# Altium footprint library Drosel.PcbLib: 92 footprints (part 3 of 6)
Each footprint in its own frame and in the unit in brackets; x right, y up, seen from the top. Pads: shape width x height; smd on the part's side, far side on the other; paste and mask are expansions set on the pad; w line width, h text height; cw(c..) or ccw(c..) is an arc to the next point about the centre after c.
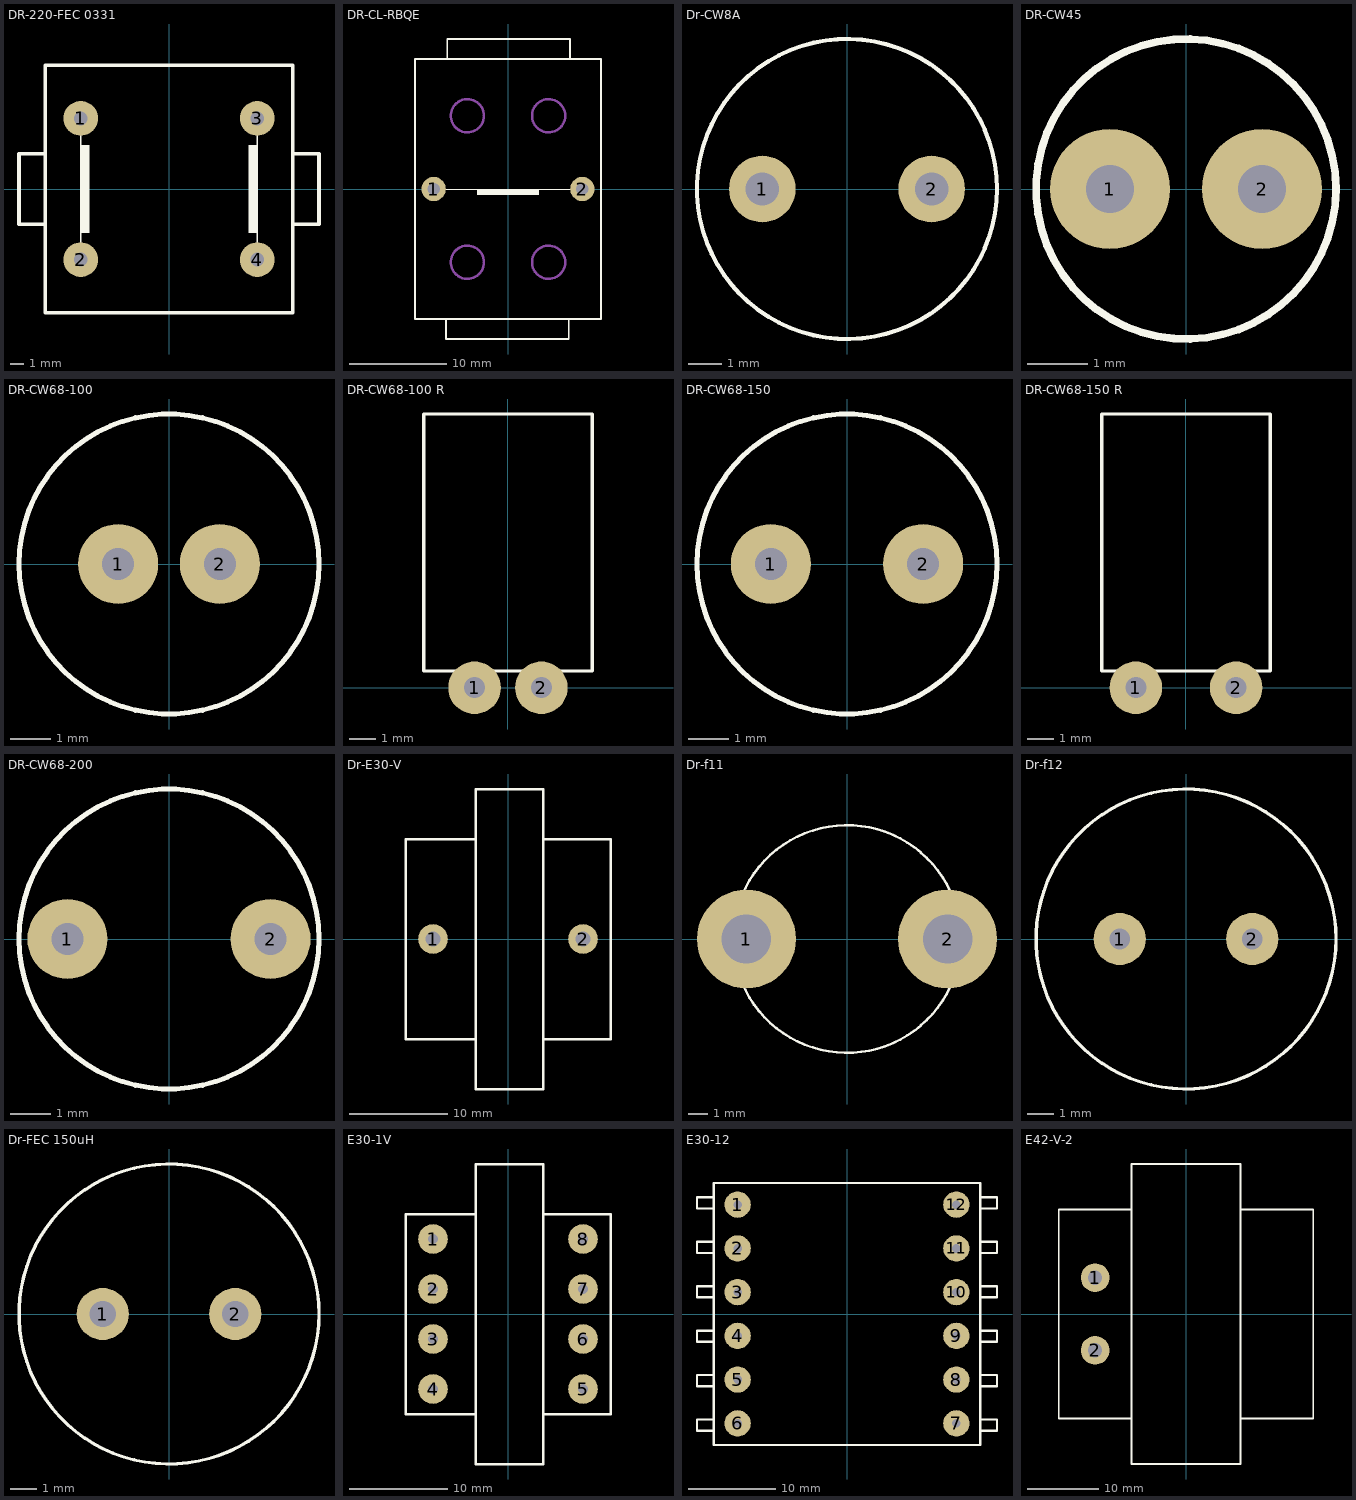
[diagram p2: the footprints below, top view; thin cyan lines are the x and y axes]

## DR-220-FEC 0331 [mm]
pads (4):
  round 2.5 hole 1: 1(-6.35,5.08) 2(-6.35,-5.08) 3(6.35,5.08) 4(6.35,-5.08)
Top Overlay:
  region: -5.715,-3.175 -5.715,3.175 -6.35,3.175 -6.35,-3.175
  region: 5.715,3.175 5.715,-3.175 6.35,-3.175 6.35,3.175
  lines w0.127: -6.35,-5.08 -6.35,5.08 ; 6.35,-5.08 6.35,5.08
  lines w0.254: -8.89,-2.54 -10.795,-2.54 -10.795,2.54 ; -8.89,2.54 -9.525,2.54 -10.795,2.54 ; 8.89,-2.54 10.795,-2.54 10.795,2.54 8.89,2.54 ; -10.795,2.54 -10.16,2.54 -10.795,2.54 ; -8.89,-8.89 8.89,-8.89 8.89,8.89 -8.89,8.89 -8.89,-8.89

## DR-CL-RBQE [mm]
pads (2):
  round 2.5 hole 1.27: 1(-7.62,0) 2(7.62,0)
Top Overlay:
  rectangle: -3.175,-0.635 3.175,0
  lines w0.127: -7.62,0 7.62,0
  lines w0.2: -6.35,-13.335 -6.35,-15.367 6.223,-15.367 6.223,-13.335 ; -6.223,13.335 -6.223,15.367 6.35,15.367 6.35,13.335 ; -9.525,-13.335 -9.525,13.335 9.525,13.335 9.525,-13.335 -9.525,-13.335
Mechanical 2:
  circle w0.254: c-4.16,-7.5 r1.7
  circle w0.254: c4.16,-7.5 r1.7
  circle w0.254: c4.16,7.5 r1.7
  circle w0.254: c-4.16,7.5 r1.7
3D body: height 33.57, standoff -5.35, extent -9.599,-14.538 9.514,14.538

## Dr-CW8A [mm]
pads (2):
  round 2 hole 1: 1(-2.54,0) 2(2.54,0)
Top Overlay:
  circle w0.127: c0,0 r4.5
3D body: height 13.27, standoff -3.48, extent -4.5,-4.5 4.5,4.5

## DR-CW45 [mm]
pads (2):
  round 2 hole 0.8: 1(-1.27,0) 2(1.27,0)
Top Overlay:
  circle w0.127: c0,0 r2.5
3D body: height 8.02, standoff -3.48, extent -2.5,-2.5 2.5,2.5

## DR-CW68-100 [mm]
pads (2):
  round 2 hole 0.8: 1(-1.27,0) 2(1.27,0)
Top Overlay:
  circle w0.127: c0,0 r3.75
3D body: height 11.27, standoff -3.48, extent -3.75,-3.75 3.75,3.75

## DR-CW68-100 R [mm]
pads (2):
  round 2 hole 0.8: 1(-1.27,0) 2(1.27,0)
Top Overlay:
  lines w0.127: -3.2,0.635 3.2,0.635 3.2,10.4 -3.2,10.4 -3.2,0.635
3D body: height 6.4, standoff -2.5, extent -3.2,-0.3 3.2,10.4

## DR-CW68-150 [mm]
pads (2):
  round 2 hole 0.8: 1(-1.905,0) 2(1.905,0)
Top Overlay:
  circle w0.127: c0,0 r3.75
3D body: height 11.27, standoff -3.48, extent -3.75,-3.75 3.75,3.75

## DR-CW68-150 R [mm]
pads (2):
  round 2 hole 0.8: 1(-1.905,0) 2(1.905,0)
Top Overlay:
  lines w0.127: -3.2,0.635 3.2,0.635 3.2,10.4 -3.2,10.4 -3.2,0.635
3D body: height 6.4, standoff -2.5, extent -3.2,-0.3 3.2,10.4

## DR-CW68-200 [mm]
pads (2):
  round 2 hole 0.8: 1(-2.54,0) 2(2.54,0)
Top Overlay:
  circle w0.127: c0,0 r3.75
3D body: height 11.27, standoff -3.48, extent -3.75,-3.75 3.75,3.75

## Dr-E30-V [mm]
pads (2):
  round 3 hole 1.5: 1(-7.62,0) 2(7.62,0)
Top Overlay:
  lines w0.254: -3.302,-10.16 -10.414,-10.16 -10.414,10.16 -3.302,10.16 ; 3.556,-10.16 10.414,-10.16 10.414,10.16 3.556,10.16 ; -3.302,-15.24 -3.302,15.24 3.556,15.24 3.556,-15.24 -3.302,-15.24

## Dr-f11 [mm]
pads (2):
  round 5 hole 2.5: 1(-5.08,0) 2(5.08,0)
Top Overlay:
  circle w0.127: c0,0 r5.75
3D body: height 26, standoff -2.5, extent -6.08,-5.285 6.08,5.715

## Dr-f12 [mm]
pads (2):
  round 2 hole 0.8: 1(-2.54,0) 2(2.54,0)
Top Overlay:
  circle w0.127: c0,0 r5.75

## Dr-FEC 150uH [mm]
pads (2):
  round 2 hole 1: 1(-2.54,0) 2(2.54,0)
Top Overlay:
  circle w0.127: c0,0 r5.75
3D body: height 13.27, standoff -3.48, extent -6,-6 6,6

## E30-1V [mm]
pads (8):
  round 3 hole 1: 1(-7.62,7.62) 2(-7.62,2.54) 3(-7.62,-2.54) 4(-7.62,-7.62) 5(7.62,-7.62) 6(7.62,-2.54) 7(7.62,2.54) 8(7.62,7.62)
Top Overlay:
  lines w0.254: -3.302,-10.16 -10.414,-10.16 -10.414,10.16 -3.302,10.16 ; 3.556,-10.16 10.414,-10.16 10.414,10.16 3.556,10.16 ; -3.302,-15.24 -3.302,15.24 3.556,15.24 3.556,-15.24 -3.302,-15.24

## E30-12 [mm]
pads (12):
  round 3 hole 1: 1(-12.5,12.5) 2(-12.5,7.5) 3(-12.5,2.5) 4(-12.5,-2.5) 5(-12.5,-7.5) 6(-12.5,-12.5) 7(12.5,-12.5) 8(12.5,-7.5) 9(12.5,-2.5) 10(12.5,2.5) 11(12.5,7.5) 12(12.5,12.5)
Top Overlay:
  lines w0.254: -15.24,-13.335 -17.145,-13.335 -17.145,-12.065 -15.24,-12.065 ; -15.24,-8.255 -17.145,-8.255 -17.145,-6.985 -15.24,-6.985 ; -15.24,-3.175 -17.145,-3.175 -17.145,-1.905 -15.24,-1.905 ; -15.24,1.905 -17.145,1.905 -17.145,3.175 -15.24,3.175 ; -15.24,6.985 -17.145,6.985 -17.145,8.255 -15.24,8.255 ; -15.24,12.065 -17.145,12.065 -17.145,13.335 -15.24,13.335 ; 15.24,-13.335 17.145,-13.335 17.145,-12.065 15.24,-12.065 ; 15.24,-8.255 17.145,-8.255 17.145,-6.985 15.24,-6.985 ; 15.24,-3.175 17.145,-3.175 17.145,-1.905 15.24,-1.905 ; 15.24,1.905 17.145,1.905 17.145,3.175 15.24,3.175 ; 15.24,6.985 17.145,6.985 17.145,8.255 15.24,8.255 ; 15.24,12.065 17.145,12.065 17.145,13.335 15.24,13.335 ; -15.24,-14.986 15.24,-14.986 15.24,14.986 -15.24,14.986 -15.24,-14.986
3D body: height 7, standoff 0, extent -15.24,-14.986 -8.89,14.986
3D body: height 7, standoff 0, extent 8.89,-14.986 15.24,14.986
3D body: height 19, standoff 0.5, extent -8.89,-8.89 8.89,8.89
3D body: height 15, standoff 7, extent -15.24,-14.986 15.24,14.986
3D body: height 2.8, standoff 2.3, extent -17.145,12.446 -15.24,12.954
3D body: height 2.8, standoff 2.3, extent -17.145,7.366 -15.24,7.874
3D body: height 2.8, standoff 2.3, extent -17.145,2.286 -15.24,2.794
3D body: height 2.8, standoff 2.3, extent -17.145,-2.794 -15.24,-2.286
3D body: height 2.8, standoff 2.3, extent -17.145,-7.874 -15.24,-7.366
3D body: height 2.8, standoff 2.3, extent -17.145,-12.954 -15.24,-12.446
3D body: height 2.8, standoff 2.3, extent 15.24,12.446 17.145,12.954
3D body: height 2.8, standoff 2.3, extent 15.24,7.366 17.145,7.874
3D body: height 2.8, standoff 2.3, extent 15.24,2.286 17.145,2.794
3D body: height 2.8, standoff 2.3, extent 15.24,-2.794 17.145,-2.286
3D body: height 2.8, standoff 2.3, extent 15.24,-7.874 17.145,-7.366
3D body: height 2.8, standoff 2.3, extent 15.24,-12.954 17.145,-12.446

## E42-V-2 [mm]
pads (2):
  round 4 hole 2: 1(-12.7,5.08) 2(-12.7,-5.08)
Top Overlay:
  lines w0.254: -7.62,-14.605 -17.78,-14.605 -17.78,14.605 -7.62,14.605 ; 7.62,-14.605 17.78,-14.605 17.78,14.605 7.62,14.605 ; -7.62,-20.955 7.62,-20.955 7.62,20.955 -7.62,20.955 -7.62,-20.955
3D body: height 36, standoff 6, extent 7.62,-14.605 17.78,14.605
3D body: height 36, standoff 6, extent -17.78,-14.605 -7.62,14.605
3D body: height 43, standoff 0, extent -7.62,-20.955 7.62,20.955